# Altium schematic symbol library D Sub Connectors.SchLib: 1 symbol
Pins are listed as number, name and electrical type; pins without a type are passive.

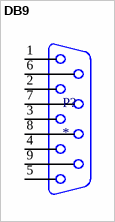
[diagram p0: symbol DB9]

## DB9
designator P?
D-Sub Connector (9-pin) DB9 DSUB9; Manufacturer: Norcomp Inc.; Part No.: 190-09FA; Vendor: Digi-Key; Notes: Slim DB9 Female Socket; Price Est.: $2.82
footprint Slim DB9 Female (Norcomp Slim DB9 Female Receptical 190-009-263)
pins: 1, 2, 3, 4, 5, 6, 7, 8, 9